# Altium footprint library 器件封装.PCBLIB: 225 footprints (part 8 of 15)
Each footprint in its own frame and in the unit in brackets; x right, y up, seen from the top. Pads: shape width x height; smd on the part's side, far side on the other; paste and mask are expansions set on the pad; w line width, h text height; cw(c..) or ccw(c..) is an arc to the next point about the centre after c.
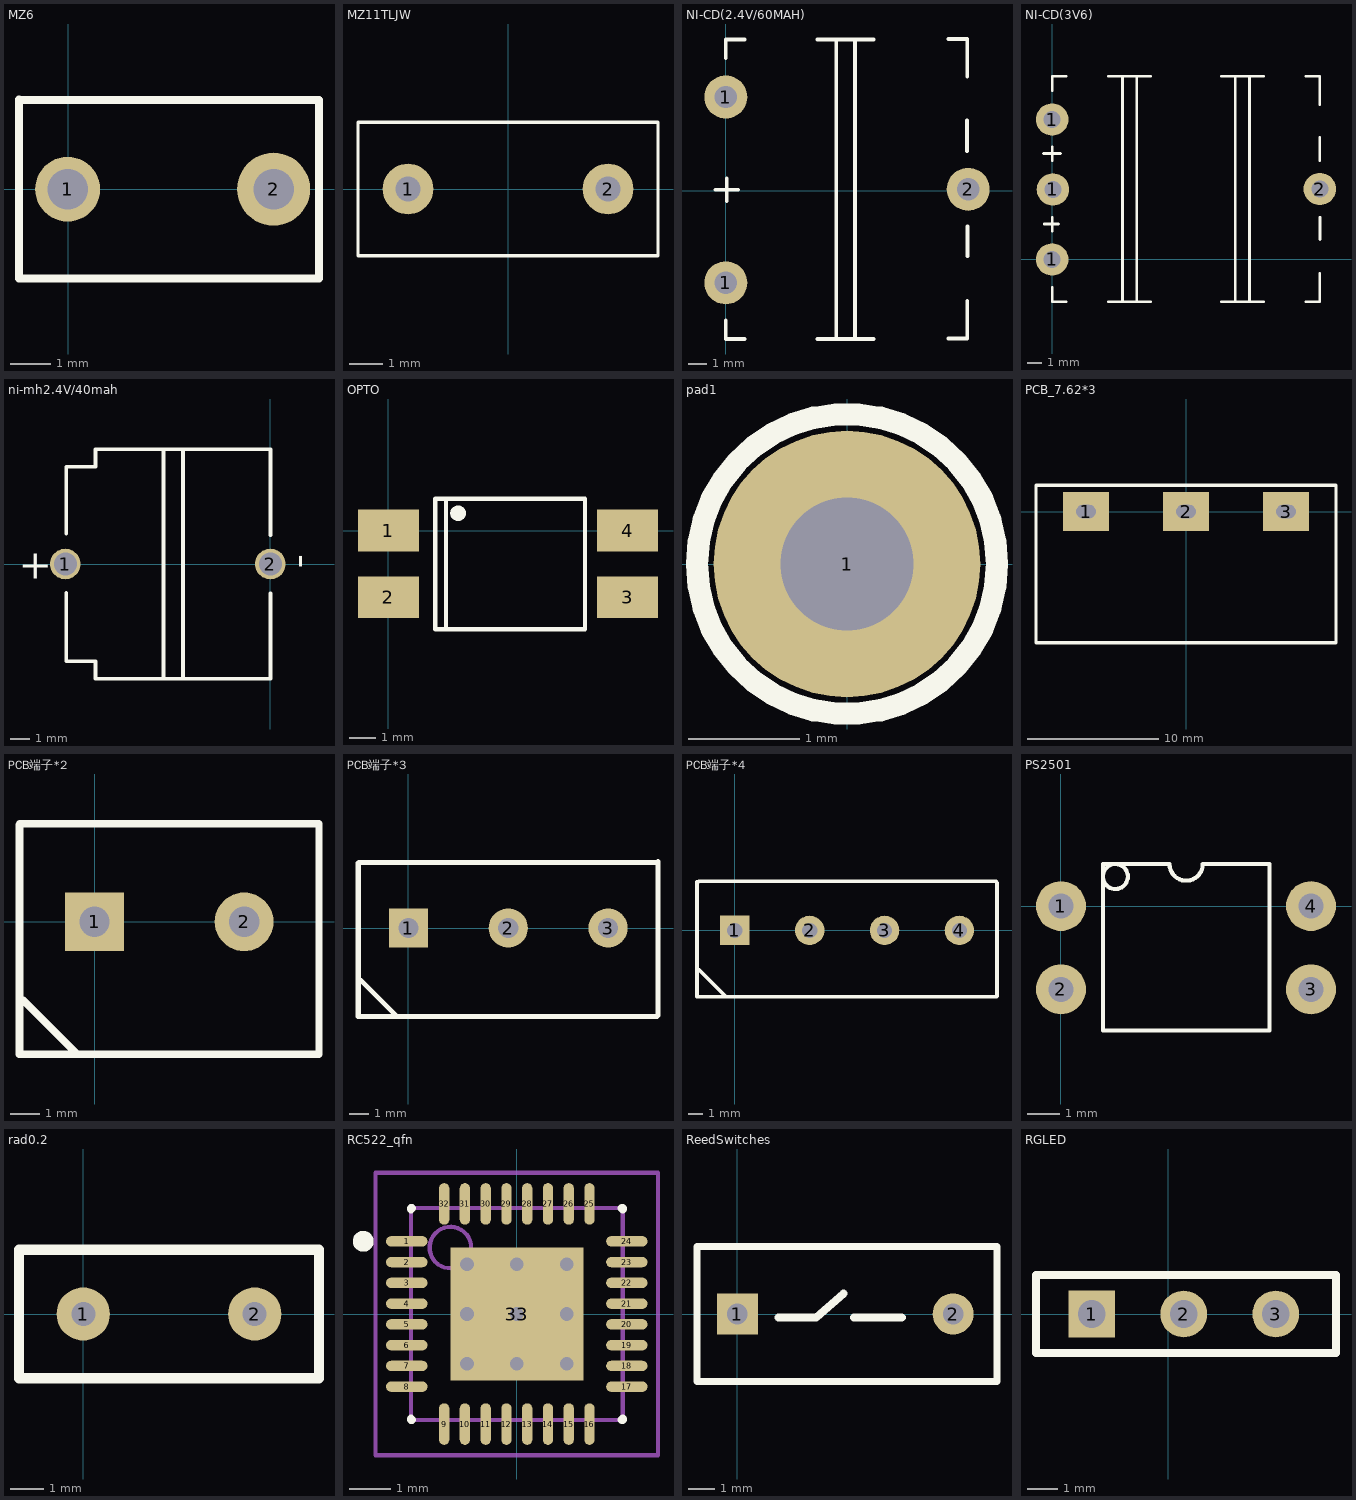
[diagram p7: the footprints below, top view; thin cyan lines are the x and y axes]

## MZ6 [mm]
pads (2):
  round 1.6 hole 1: 1(-0.011,-0.002)
  round 1.8 hole 1: 2(5.069,-0.002)
TopOverlay:
  lines w0.2: -1.211,2.198 6.189,2.198 6.189,-2.202 -1.211,-2.202 -1.211,2.208

## MZ11TLJW [mil]
pads (2):
  round 60 hole 30: 1(-118.11,0) 2(118.11,0)
TopOverlay:
  lines w3.94: -177.16,-78.74 177.16,-78.74 177.16,78.74 -177.16,78.74 -177.16,-78.74

## NI-CD(2.4V/60MAH) [mm]
pads (3):
  round 2.3 hole 1.2: 1(0,-4.93) 1(0,5) 2(12.95,0.07)
TopOverlay:
  lines w0.2: -0.55,0.04 0.65,0.04 ; 0,-6.93 0,-7.93 1,-7.93 ; 0,7.07 0,8.07 1,8.07 ; 0.05,-0.56 0.05,0.64 ; 4.9,-7.93 7.9,-7.93 ; 4.9,8.07 7.9,8.07 ; 5.9,-7.93 5.9,8.07 ; 6.9,-7.93 6.9,8.07 ; 11.9,-7.9 12.9,-7.9 12.9,-5.88 ; 11.9,8.1 12.9,8.1 12.9,6.1 ; 12.89,2.1 12.89,3.75 ; 12.92,-3.49 12.92,-1.91

## NI-CD(3V6) [mm]
pads (4):
  round 2.3 hole 1.2: 1(0,0) 1(0,9.93) 1(0.05,4.97) 2(19,5)
TopOverlay:
  lines w0.2: -0.62,7.53 0.58,7.53 ; -0.56,2.52 0.44,2.52 ; 0,-2 0,-3 1,-3 ; 0,2 0,3 ; 0,7 0,8 ; 0,12 0,13 1,13 ; 4,-3 7,-3 ; 4,13 7,13 ; 5,-3 5,13 ; 6,-3 6,13 ; 12,-3 15,-3 ; 12,13 15,13 ; 13,-3 13,13 ; 14,-3 14,13 ; 18,-3 19,-3 19,-0.98 ; 18,13 19,13 19,11 ; 18.99,7 18.99,8.65 ; 19.02,1.41 19.02,2.99

## ni-mh2.4V/40mah [mm]
pads (2):
  round 1.6 hole 1.2: 1(-10.72,0) 2(0,0)
TopOverlay:
  lines w0.2: -10.668,-5.08 -9.144,-5.08 -9.144,-6 0,-6 0,-1.54 ; -10.668,-4.984 -10.668,-1.524 ; -10.668,1.59 -10.668,5.08 -9.144,5.08 -9.144,6 0,6 0,1.52 ; -5.588,-6 -5.588,6 ; -4.572,-6 -4.572,6
  text "-" at 1.016,0.508 h1.52
  text "+" at -13.14,-0.78 h1.52

## OPTO [mm]
pads (5):
  rect 2.3x1.57 smd: 1(0,0) 2(0,-2.52) 3(9.03,-2.52) 4(9.03,0)
  round 0.6 on Top Overlay: ""(2.63,0.65)
TopOverlay:
  lines w0.16: 1.77,-3.73 1.77,1.2 7.4,1.2 ; 1.79,-3.73 7.41,-3.73 ; 2.17,-3.69 2.17,1.18 ; 7.42,-3.73 7.42,1.2

## pad1 [mm]
pads (1):
  round 2.4 hole 1.2: 1(0,0)
TopOverlay:
  circle w0.2: c0,0 r1.35

## PCB_7.62*3 [mm]
pads (3):
  rect 3.5x3 hole 1 slot 1.5 at 0 deg: 1(-7.62,0) 2(0,0) 3(7.62,0)
TopOverlay:
  lines w0.254: 11.43,1.94 11.43,-9.998 -11.43,-9.998 -11.43,2.002 11.43,2.002

## PCB端子*2 [mm]
pads (2):
  rect 2x2 hole 1.03: 1(0,0)
  round 2 hole 1.03: 2(5.08,0)
TopOverlay:
  lines w0.254: -2.565,-2.666 -2.42,-2.666 -0.59,-4.496 ; -2.565,3.302 -2.565,-4.496 7.595,-4.496 ; -2.54,3.327 -2.54,-4.496 7.62,-4.496 7.62,3.327 ; -2.54,3.327 -2.54,3.327 ; -2.54,3.327 7.62,3.327 ; 7.62,3.327 7.62,3.327

## PCB端子*3 [mm]
pads (3):
  rect 2x2 hole 1.03: 1(0,0)
  round 2 hole 1.03: 2(5.08,0) 3(10.16,0)
TopOverlay:
  lines w0.254: -2.565,-2.666 -2.42,-2.666 -0.59,-4.496 ; -2.565,3.302 -2.565,-4.496 7.595,-4.496 ; 12.675,3.327 -2.515,3.327 -2.54,3.302 -2.54,-4.496 ; 12.7,3.378 12.7,-4.445 12.649,-4.496 -2.54,-4.496 ; -2.54,-4.496 -2.54,-4.496

## PCB端子*4 [mm]
pads (4):
  rect 2x2 hole 1.03: 1(0,0)
  round 2 hole 1.03: 2(5.08,0) 3(10.16,0) 4(15.24,0)
TopOverlay:
  lines w0.254: -2.565,-2.666 -2.42,-2.666 -0.59,-4.496 ; -2.565,3.302 -2.565,-4.496 7.595,-4.496 ; 17.729,3.327 -2.438,3.327 -2.54,3.226 -2.54,-4.496 ; 17.79,3.226 17.79,-4.46 17.755,-4.496 -2.54,-4.496 ; -2.54,-4.496 -2.54,-4.496

## PS2501 [mil]
pads (4):
  round 60 hole 30: 1(0,0) 2(0,-100) 3(300.24,-100) 4(300.24,0)
TopOverlay:
  circle w5: c65.29,35.44 r15
  lines w5: 50.29,-149.56 250.29,-149.56 250.29,50.44 170.29,50.44 cw(c150.29,50.44) 130.29,50.44 50.29,50.44 50.29,-149.56

## rad0.2 [mil]
pads (2):
  round 62 hole 28: 1(0,0) 2(200,0)
TopOverlay:
  lines w12: -75,-75 -75,75 275,75 275,-75 -75,-75

## RC522_qfn [mm] "QFN, 32-Leads, Body 5.1x5.1mm (max), Pitch 0.50mm, IPC Medium Density"
height 1
pads (33):
  oval 1x0.25 smd: 1(-2.65,1.75) 2(-2.65,1.25) 3(-2.65,0.75) 4(-2.65,0.25) 5(-2.65,-0.25) 6(-2.65,-0.75) 7(-2.65,-1.25) 8(-2.65,-1.75) 17(2.65,-1.75) 18(2.65,-1.25) 19(2.65,-0.75) 20(2.65,-0.25) 21(2.65,0.25) 22(2.65,0.75) 23(2.65,1.25) 24(2.65,1.75)
  oval 0.25x1 smd: 9(-1.75,-2.65) 10(-1.25,-2.65) 11(-0.75,-2.65) 12(-0.25,-2.65) 13(0.25,-2.65) 14(0.75,-2.65) 15(1.25,-2.65) 16(1.75,-2.65) 25(1.75,2.65) 26(1.25,2.65) 27(0.75,2.65) 28(0.25,2.65) 29(-0.25,2.65) 30(-0.75,2.65) 31(-1.25,2.65) 32(-1.75,2.65)
  rect 3.2x3.2 smd: 33(0,0)
via -1.2,1.2 diameter 0.66 hole 0.33
via 0,1.2 diameter 0.66 hole 0.33
via 1.2,1.2 diameter 0.66 hole 0.33
via -1.2,0 diameter 0.66 hole 0.33
via 0,0 diameter 0.66 hole 0.33
via 1.2,0 diameter 0.66 hole 0.33
via -1.2,-1.2 diameter 0.66 hole 0.33
via 0,-1.2 diameter 0.66 hole 0.33
via 1.2,-1.2 diameter 0.66 hole 0.33
TopOverlay:
  circle w0.25: c-3.7,1.75 r0.125
  lines w0.2: -2.55,-2.525 -2.55,-2.55 -2.525,-2.55 ; -2.55,2.525 -2.55,2.55 -2.525,2.55 ; 2.525,-2.55 2.55,-2.55 2.55,-2.525 ; 2.525,2.55 2.55,2.55 2.55,2.525
Mechanical13:
  circle w0.1: c-1.6,1.6 r0.5
  lines w0.1: -2.55,-2.55 -2.55,2.55 2.55,2.55 2.55,-2.55 -2.55,-2.55
Mechanical15:
  lines w0.1: -0.5,0 0.5,0 ; 0,-0.5 0,0.5 ; -3.4,-3.4 -3.4,3.4 3.4,3.4 3.4,-3.4 -3.4,-3.4
3D body: height 1, standoff 0.05, extent -2.55,-2.55 2.55,2.55

## ReedSwitches [mil]
pads (2):
  rect 60x60 hole 30: 1(0,0)
  round 60 hole 30: 2(314.96,0)
TopOverlay:
  lines w10: -59,-98.43 -59,98.43 379,98.43 379,-98.43 -59,-98.43
  lines w11.81: 60,-5 115,-5 155,30 ; 170,-5 240,-5

## RGLED [mm]
pads (3):
  rect 1.524x1.524 hole 0.9: 1(-2.5,0)
  round 1.524 hole 0.9: 2(0.5,0) 3(3.5,0)
TopOverlay:
  lines w0.25: -4.318,-1.27 -4.318,1.27 5.461,1.27 5.461,-1.27 -4.318,-1.27